# EAGLE library part MCP45HCX1-ST (library alvie)
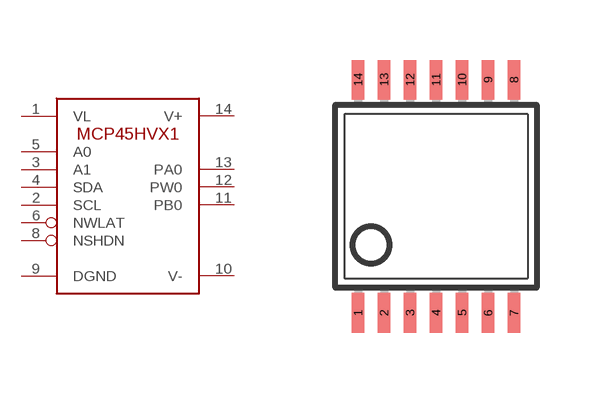
[diagram p1: symbol with the pads of TSSOP14; footprint TSSOP14]

Designator prefix -

## MCP45HCX1-ST  [TSSOP14]
1  VL  pwr
2  SCL
3  A1  in
4  SDA
5  A0  in
6  NWLAT  in
8  NSHDN  in
9  DGND  pwr
10  V-  pwr
11  PB0  pas
12  PW0  pas
13  PA0  pas
14  V+  pwr

## Footprint TSSOP14 (pad centres in mm)
smd 0.305 x 0.991: 1 -1.95,-2.918; 2 -1.3,-2.918; 3 -0.65,-2.918; 4 0,-2.918; 5 0.65,-2.918; 6 1.3,-2.918; 7 1.95,-2.918; 8 1.95,2.918; 9 1.3,2.918; 10 0.65,2.918; 11 0,2.918; 12 -0.65,2.918; 13 -1.3,2.918; 14 -1.95,2.918